# Altium schematic symbol library GeneralComponents.SchLib: 10 symbols
Pins are listed as number, name and electrical type; pins without a type are passive.

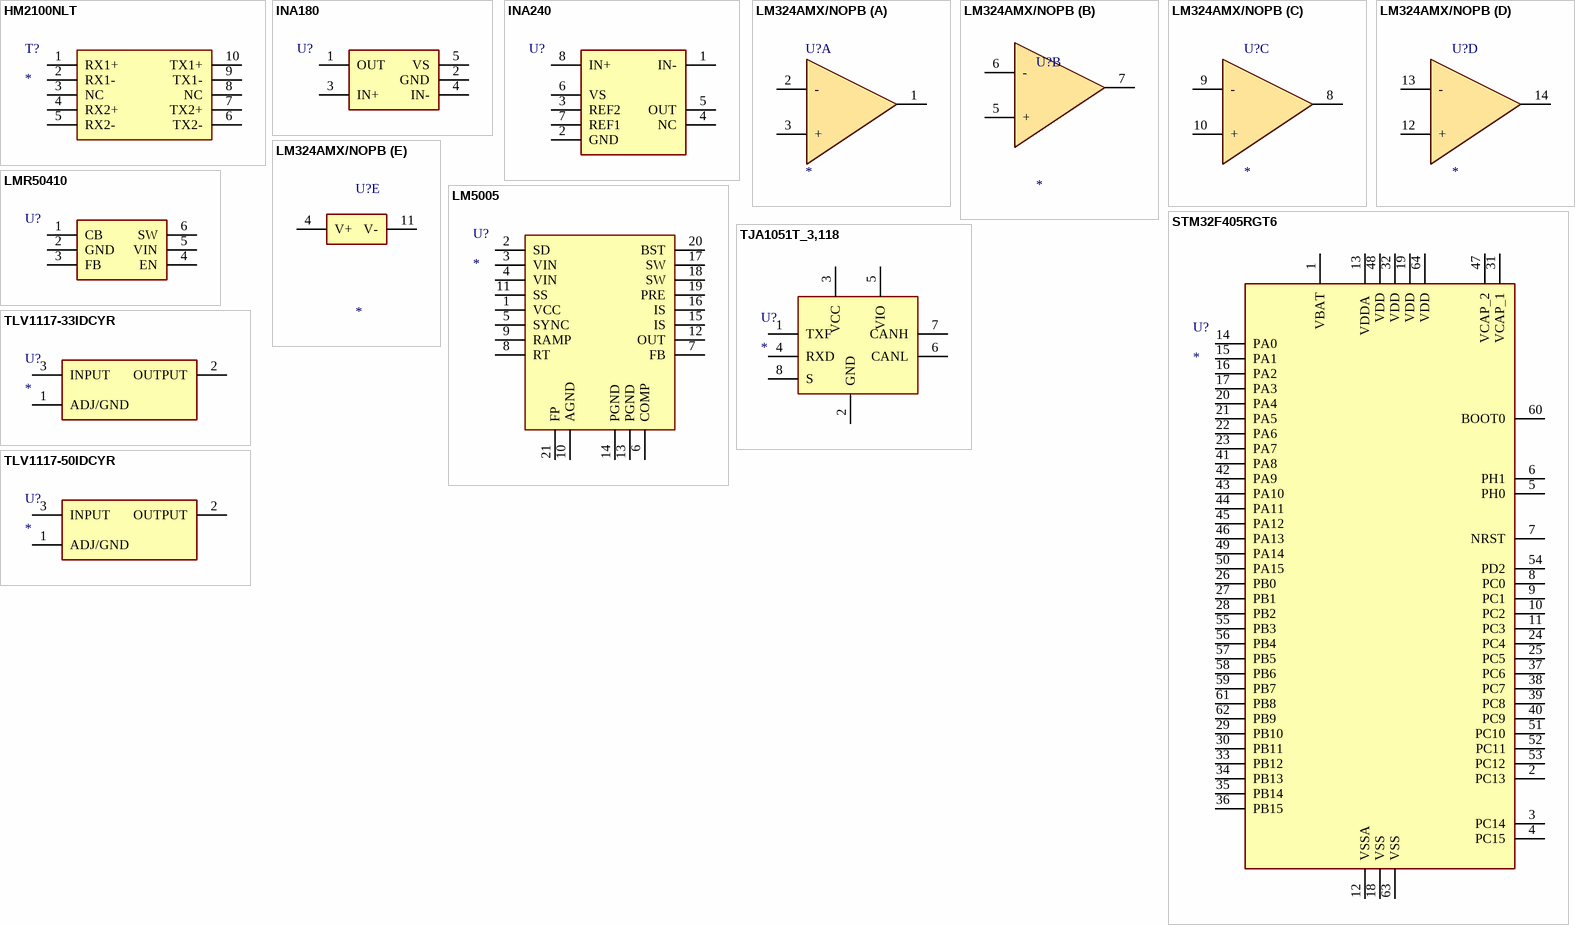
[diagram p0: symbols HM2100NLT to TLV1117-50IDCYR]

## HM2100NLT
designator T?
Pulse Transformer 1:1 Surface Mount 150µH, 450µH; Manufacturer: Pulse Electronics; Manufacturer Part Number: HM2100NLT; Datasheet: https://productfinder.pulseeng.com/doc_type/WEB301/doc_num/HM2100NL/doc_part/HM2100NL.pdf; Supplier Part Number: 1840-1032-1-ND; Supplier: Digikey
footprint HM2100NLT
pins: 1 RX1+, 2 RX1-, 3 NC, 4 RX2+, 5 RX2-, 6 TX2-, 7 TX2+, 8 NC, 9 TX1-, 10 TX1+

## INA180
designator U?
0V to 26V Current Sense Amplifier; Manufacturer: Texas Instruments; Manufacturer Part Number: INA180A2IDBVR; Datasheet: https://www.ti.com/lit/ds/symlink/ina180.pdf; Supplier Part Number: 296-47653-1-ND; Supplier: Digikey
footprint INA180 (SOT23, 5-Leads, Body 2.80x2.80mm, Pitch 0.95mm, IPC Medium Density)
pins: 1 OUT, 2 GND, 3 IN+, 4 IN-, 5 VS

## INA240
designator U?
-4V to 80V Current Sense Amplifier; Manufacturer: Texas Instruments; Manufacturer Part Number: INA240A2DR; Datasheet: https://www.ti.com/lit/ds/sbos662b/sbos662b.pdf; Supplier Part Number: 296-51173-1-ND; Supplier: Digikey
footprint INA240 (SOIC, 8-Leads, Body 4.91x3.90mm, Pitch 1.27mm, IPC Medium Density)
pins: 1 IN-, 2 GND (power), 3 REF2, 4 NC, 5 OUT, 6 VS (power), 7 REF1, 8 IN+

## LM324AMX/NOPB
designator U?
Gen Purp 4Ch Opamp; Manufacturer Part Number: LM324AMX/NOPB; Manufacturer: TI; Supplier Part Number: LM324AMX/NOPBCT-ND; Supplier: Digikey; ComponentLink1Description: Datasheet; ComponentLink1URL: https://www.ti.com/lit/ds/symlink/lm124-n.pdf?HQS=dis-dk-null-digikeymode-dsf-pf-null-wwe&ts=1616555832552
footprint LM324AMX/NOPB (Gen Purp 4Ch Opamp)
part A pins: 1 14, 2 -, 3 +
part B pins: 5 +, 6 -, 7 14
part C pins: 8 14, 9 -, 10 +
part D pins: 12 +, 13 -, 14
part E pins: 4 V+, 11 V-

## LM5005
designator U?
7V to 75V 2.5A, Buck Converter; Manufacturer: Texas Instruments; Manufacturer Part Number: LM5005MHX/NOPB; Datasheet: https://www.ti.com/lit/ds/symlink/lm5005.pdf?HQS=TI-null-null-digikeymode-df-pf-null-wwe&ts=1606456124909; Supplier Part Number: 926-LM5005MHX/NOPB; Supplier: Mouser
footprint LM5005 (20-PowerTSSOP (0.173"", 4.40mm Width))
pins: 1 VCC, 2 SD, 3 VIN, 4 VIN, 5 SYNC, 6 COMP, 7 FB, 8 RT, 9 RAMP, 10 AGND, 11 SS, 12 OUT, 13 PGND, 14 PGND, 15 IS, 16 IS, 17 SW, 18 SW, 19 PRE, 20 BST, 21 FP

## LMR50410
designator U?
4V to 36V 1A, Buck Converter; Manufacturer: Texas Instruments; Manufacturer Part Number: LMR50410YQDBVRQ1; Datasheet: https://www.ti.com/lit/ds/symlink/lmr50410-q1.pdf; Supplier Part Number: LMR50410YQDBVRQ1CT-ND; Supplier: Digikey
footprint LMR50410 (SOT23, 6-Leads, Body 2.90x2.80mm, Pitch 0.95mm, IPC Medium Density)
pins: 1 CB, 2 GND (power), 3 FB, 4 EN, 5 VIN (power), 6 SW

## STM32F405RGT6
designator U?
ST 64-pin Micro; Manufacturer Part Number: STM32F405RG; Manufacturer: ST; Supplier Part Number: 497-11767-ND; Supplier: Digikey; ComponentLink1Description: Datsheet; ComponentLink1URL: https://www.st.com/content/ccc/resource/technical/document/datasheet/ef/92/76/6d/bb/c2/4f/f7/DM00037051.pdf/files/DM00037051.pdf/jcr:content/translations/en.DM00037051.pdf
footprint STM32F405RGT6TR
pins: 1 VBAT (power), 2 PC13, 3 PC14, 4 PC15, 5 PH0, 6 PH1, 7 NRST, 8 PC0, 9 PC1, 10 PC2, 11 PC3, 12 VSSA (power), 13 VDDA  (power), 14 PA0, 15 PA1, 16 PA2, 17 PA3, 18 VSS (power), 19 VDD (power), 20 PA4, 21 PA5, 22 PA6, 23 PA7, 24 PC4, 25 PC5, 26 PB0, 27 PB1, 28 PB2, 29 PB10, 30 PB11, 31 VCAP_1 (power), 32 VDD (power), 33 PB12, 34 PB13, 35 PB14, 36 PB15, 37 PC6, 38 PC7, 39 PC8, 40 PC9, 41 PA8, 42 PA9, 43 PA10, 44 PA11, 45 PA12, 46 PA13, 47 VCAP_2 (power), 48 VDD (power), 49 PA14, 50 PA15, 51 PC10, 52 PC11, 53 PC12, 54 PD2, 55 PB3, 56 PB4, 57 PB5, 58 PB6, 59 PB7, 60 BOOT0, 61 PB8, 62 PB9, 63 VSS (power), 64 VDD (power)

## TJA1051T_3,118
designator U?
CAN Transceiver IC 4.5V-5.5V 250ns; Manufacturer: NXP; Manufacturer Part Number: TJA1051T/3,118; Datasheet: http://www.nxp.com/docs/en/data-sheet/TJA1051.pdf; Supplier Part Number: 568-8684-1-ND; Supplier: Digikey
footprint TJA1051T/3,118 (SOIC127P600X175-8N)
pins: 1 TXF, 2 GND, 3 VCC, 4 RXD, 5 VIO, 6 CANL, 7 CANH, 8 S

## TLV1117-33IDCYR
designator U?
Linear Voltage Regulator IC 3.3V 800MA SOT223-4; Manufacturer: Texas Instruments; Manufacturer Part Number: TLV1117-33IDCYR; Datasheet: http://www.ti.com/lit/ds/symlink/tlv1117.pdf?HQS=TI-null-null-digikeymode-df-pf-null-wwe&ts=1590668900314; Supplier Part Number: 296-21112-1-ND; Supplier: Digikey
footprint TLV1117 (SOT230P700X180-4N)
pins: 1 ADJ/GND, 2 OUTPUT, 3 INPUT

## TLV1117-50IDCYR
designator U?
Linear Voltage Regulator IC 5V 800MA SOT223-4; Manufacturer: Texas Instruments; Manufacturer Part Number: TLV1117-50IDCYR; Datasheet: http://www.ti.com/lit/ds/symlink/tlv1117.pdf?HQS=TI-null-null-digikeymode-df-pf-null-wwe&ts=1590668900314; Supplier Part Number: 296-21115-1-ND; Supplier: Digikey
footprint TLV1117 (SOT230P700X180-4N)
pins: 1 ADJ/GND, 2 OUTPUT, 3 INPUT